# Altium footprint library SIM_CARD_91228.PcbLib: 1 footprints
Each footprint in its own frame and in the unit in brackets; x right, y up, seen from the top. Pads: shape width x height; smd on the part's side, far side on the other; paste and mask are expansions set on the pad; w line width, h text height; cw(c..) or ccw(c..) is an arc to the next point about the centre after c.
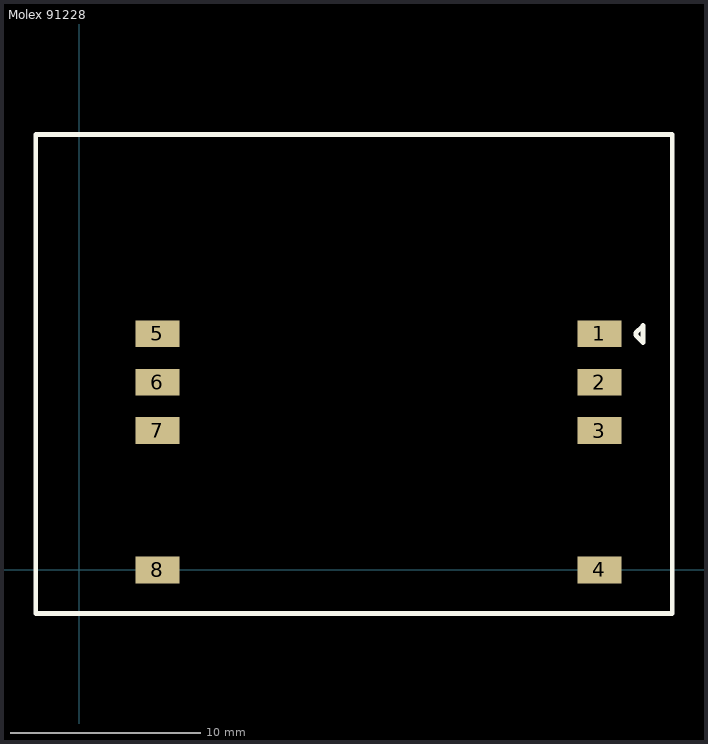
[diagram p0: the footprint, top view; thin cyan lines are the x and y axes]

## Molex 91228 [mm] "SIM Card"
height 0.6
pads (8):
  rect 2.3x1.4 smd: 1(27.3,12.4) 2(27.3,9.86) 3(27.3,7.32) 4(27.3,0) 5(4.1,12.4) 6(4.1,9.86) 7(4.1,7.32) 8(4.1,0)
Top Overlay:
  lines w0.254: -2.286,-2.286 -2.286,22.86 31.115,22.86 31.115,-2.286 -2.286,-2.286 ; 29.21,12.319 29.21,12.446 29.591,12.827 29.591,11.938 29.21,12.319
3D body "SIM-912228-3002.stp": height 3, standoff -0.7, extent -2.279,-2.213 31.121,22.787